# Altium schematic symbol library HGCDLib.SchLib: 17 symbols
Pins are listed as number, name and electrical type; pins without a type are passive.

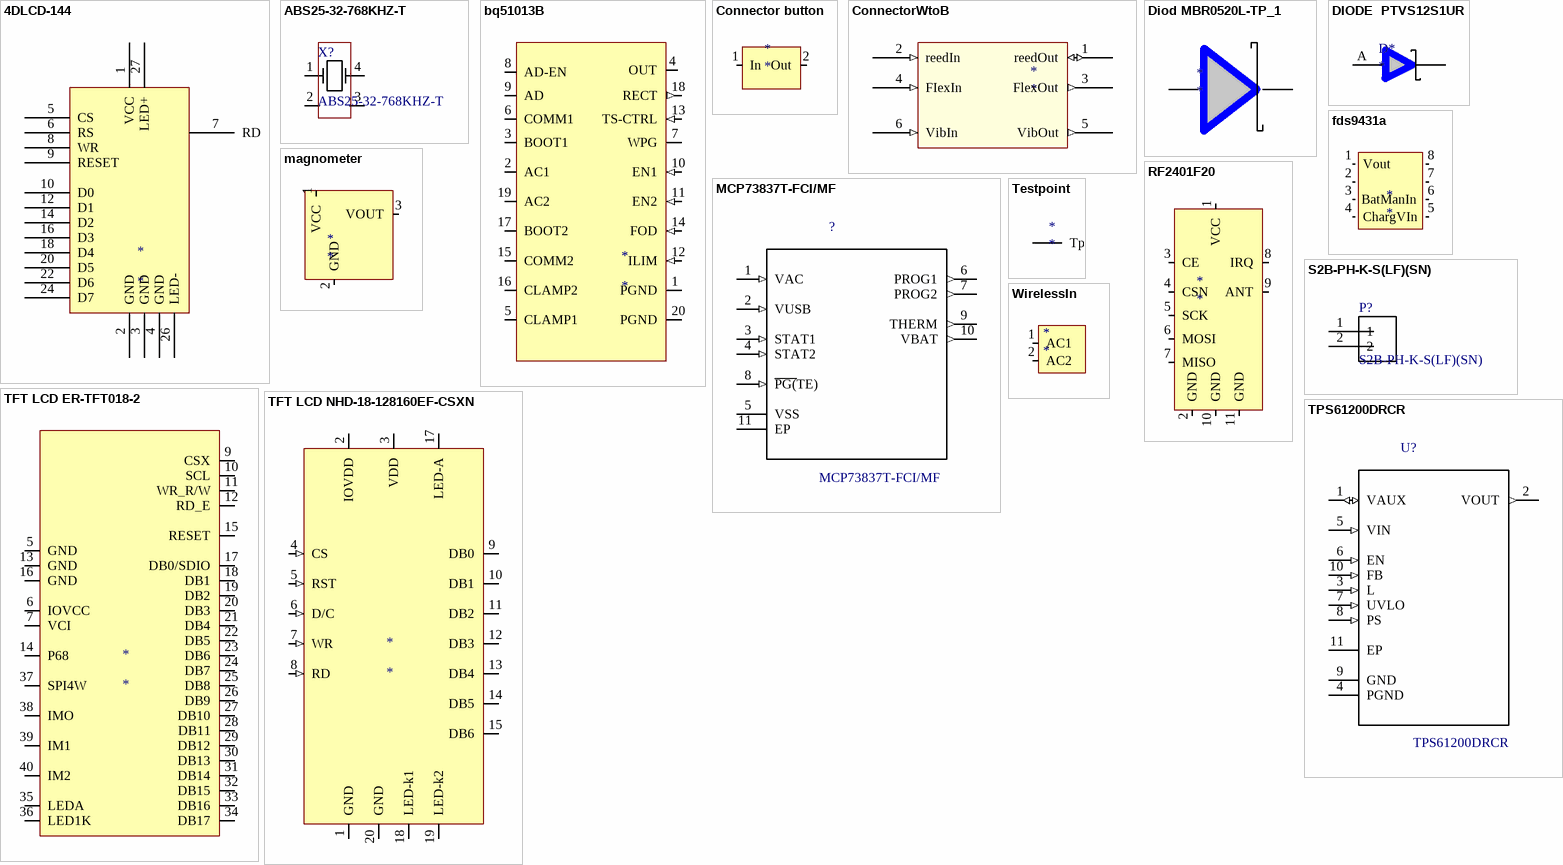
[diagram p0: symbols 4DLCD-144 to WirelessIn]

## 4DLCD-144
designator *
footprint 4DLCD-144 (display)
pins: 1 VCC, 2 GND, 3 GND, 4 GND, 5 CS, 6 RS, 7 RD, 8 WR, 9 RESET, 10 D0, 12 D1, 14 D2, 16 D3, 18 D4, 20 D5, 22 D6, 24 D7, 26 LED-, 27 LED+

## ABS25-32-768KHZ-T
designator X?
MF: Abracon; SnapEDA_Link: https://www.snapeda.com/symbols-footprints/ABS25-32-768KHZ-T/Abracon/view-part/?ref=snap; MP: ABS25-32-768KHZ-T; Availability: Unavailable; Price: None; Package: None; Value: *
footprint XTAL_ABS25-32-768KHZ-T
pins: 1, 2, 3, 4

## bq51013B
designator *
footprint CONTROLLER_MSP430FR2522IRHLT
pins: 1 PGND (power), 2 AC1 (in), 3 BOOT1 (out), 4 OUT (power), 5 CLAMP1 (out), 6 COMM1 (out), 7 WPG (power), 8 AD-EN (power), 9 AD (power), 10 EN1 (in), 11 EN2 (in), 12 ILIM (in), 13 TS-CTRL (in), 14 FOD (in), 15 COMM2 (out), 16 CLAMP2 (out), 17 BOOT2 (out), 18 RECT (out), 19 AC2 (in), 20 PGND (power)

## Connector button
designator *
footprint Button_connector
pins: 1 In, 2 Out

## ConnectorWtoB
designator *
footprint Connector_wire_to_PCB
pins: 1 reedOut (io), 2 reedIn (in), 3 FlexOut (out), 4 FIexIn (in), 5 VibOut (out), 6 VibIn (in)

## Diod MBR0520L-TP_1
designator *
footprint SOD3716X135N
pins: A 26, C 26

## DIODE  PTVS12S1UR
designator D*
footprint PTVS12S1UR
pins: A 26, C 26

## fds9431a
designator *
footprint SOIC127P600X175-8N
pins: 1 Vout (out), 2 22, 3 23, 4 ChargVIn (in), 5 22, 6 BatManIn (in), 7 22, 8 22

## magnometer
designator *
footprint SIP-3
pins: 1 VCC (power), 2 GND (power), 3 VOUT (out)

## MCP73837T-FCI/MF
designator ?
MCP73837 Series 6 V Linear Battery Charge Controller Surface Mount - DFN-10; MF: Microchip; Package: DFN-10 Microchip; SnapEDA_Link: https://www.snapeda.com/symbols-footprints/MCP73837T-FCI/MF/Microchip/view-part/?ref=snap; MP: MCP73837T-FCI/MF; Availability: Good; Price: 0.98 USD; Value: *
footprint DFN300X300X100-11N
pins: 1 VAC (in), 2 VUSB (in), 3 STAT1 (in), 4 STAT2 (in), 5 VSS (power), 6 PROG1 (out), 7 PROG2 (out), 8 ~{PG(}TE) (in), 9 THERM (out), 10 VBAT (out), 11 EP
text: Text

## RF2401F20
designator *
footprint RF2401F20
pins: 1 VCC, 2 GND, 3 CE (in), 4 CSN (in), 5 SCK (io), 6 MOSI (io), 7 MISO (io), 8 IRQ (out), 9 ANT (out), 10 GND, 11 GND

## S2B-PH-K-S(LF)(SN)
designator P?
Header Side Entry 2way; MF: JST; SnapEDA_Link: https://www.snapeda.com/symbols-footprints/S2B-PH-K-S%20%28LF%29%28SN%29/JST/view-part/?ref=snap; Availability: Good; Package: None; Price: 0.12 USD; MP: S2B-PH-K-S (LF)(SN); Value: *
footprint JST_S2B-PH-K-S(LF)(SN)
pins: 1, 2

## Testpoint
designator *
footprint Testpoint
pins: 1 Tp

## TFT LCD ER-TFT018-2
designator *
footprint LCD TFT Display
pins: 5 GND (power), 6 IOVCC (power), 7 VCI (power), 9 CSX (io), 10 SCL (io), 11 WR_R/W (io), 12 RD_E (io), 13 GND (power), 14 P68 (power), 15 RESET (io), 16 GND (power), 17 DB0/SDIO (io), 18 DB1 (io), 19 DB2 (io), 20 DB3 (io), 21 DB4 (io), 22 DB5 (io), 23 DB6 (io), 24 DB7 (io), 25 DB8 (io), 26 DB9 (io), 27 DB10 (io), 28 DB11 (io), 29 DB12 (io), 30 DB13 (io), 31 DB14 (io), 32 DB15 (io), 33 DB16 (io), 34 DB17 (io), 35 LEDA (power), 36 LED1K (power), 37 SPI4W (power), 38 IMO (power), 39 IM1 (power), 40 IM2 (power)

## TFT LCD NHD-18-128160EF-CSXN
designator *
footprint LCD TFT Display
pins: 1 GND (power), 2 IOVDD (power), 3 VDD (power), 4 CS (in), 5 RST (in), 6 D/C (in), 7 WR (in), 8 RD (in), 9 DB0 (io), 10 DB1 (io), 11 DB2 (io), 12 DB3 (io), 13 DB4 (io), 14 DB5 (io), 15 DB6 (io), 17 LED-A (power), 18 LED-k1 (power), 19 LED-k2 (power), 20 GND (power)

## TPS61200DRCR
designator U?
0.3V Input Voltage Boost Converter with 1.3A Switches and 'Down Mode' in 3x3 QFN 10-VSON -40 to 85; MF: Texas Instruments; Package: VFDFN-10 Texas Instruments; MP: TPS61200DRCR; Price: 1.71 USD; Availability: Good; SnapEDA_Link: https://www.snapeda.com/symbols-footprints/TPS61200DRCR/Texas%20Instruments/view-part/?ref=snap; Value: *
footprint SON50P300X300X100-11N
pins: 1 VAUX (io), 2 VOUT (out), 3 L (in), 4 PGND, 5 VIN (in), 6 EN (in), 7 UVLO (in), 8 PS (in), 9 GND, 10 FB (in), 11 EP

## WirelessIn
designator *
footprint WirelessIn
pins: 1 AC1, 2 AC2